# EAGLE library part 16X2_LCD_BREAKOUT (library CEDTv77)
LCD Breakout Board FRC Connector CAUTION: Do Include the Outline Part incase you need the mounting as well Part By: Rohit Gupta, Samrat Verma, Malay Rautela
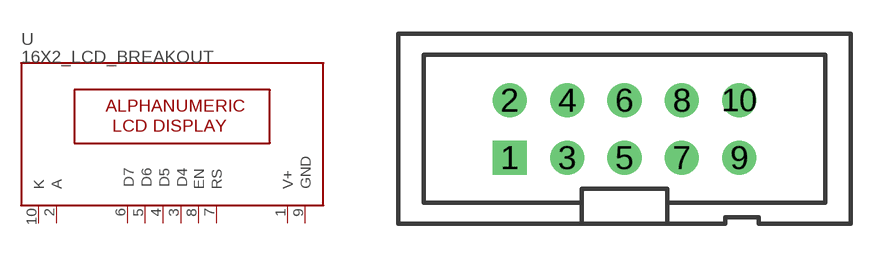
[diagram p73: symbol with the pads of BOX10; footprint BOX10]

Designator prefix -

## 16X2_LCD_BREAKOUT  [BOX10]
1  V+
2  A
3  D4
4  D5
5  D6
6  D7
7  RS
8  EN
9  GND
10  K

## Footprint BOX10 (pad centres in mm)
3M (TM) Pak 100 4-Wall Header Straight Source: 3M
drill 1 pad 1.422 square: 1 -5.08,-1.27
drill 1 pad 1.422: 2 -5.08,1.27; 3 -2.54,-1.27; 4 -2.54,1.27; 5 0,-1.27; 6 0,1.27; 7 2.54,-1.27; 8 2.54,1.27; 9 5.08,-1.27; 10 5.08,1.27